# Altium footprint library ICSP_JTAG.PcbLib: 21 footprints (part 1 of 2)
Each footprint in its own frame and in the unit in brackets; x right, y up, seen from the top. Pads: shape width x height; smd on the part's side, far side on the other; paste and mask are expansions set on the pad; w line width, h text height; cw(c..) or ccw(c..) is an arc to the next point about the centre after c.
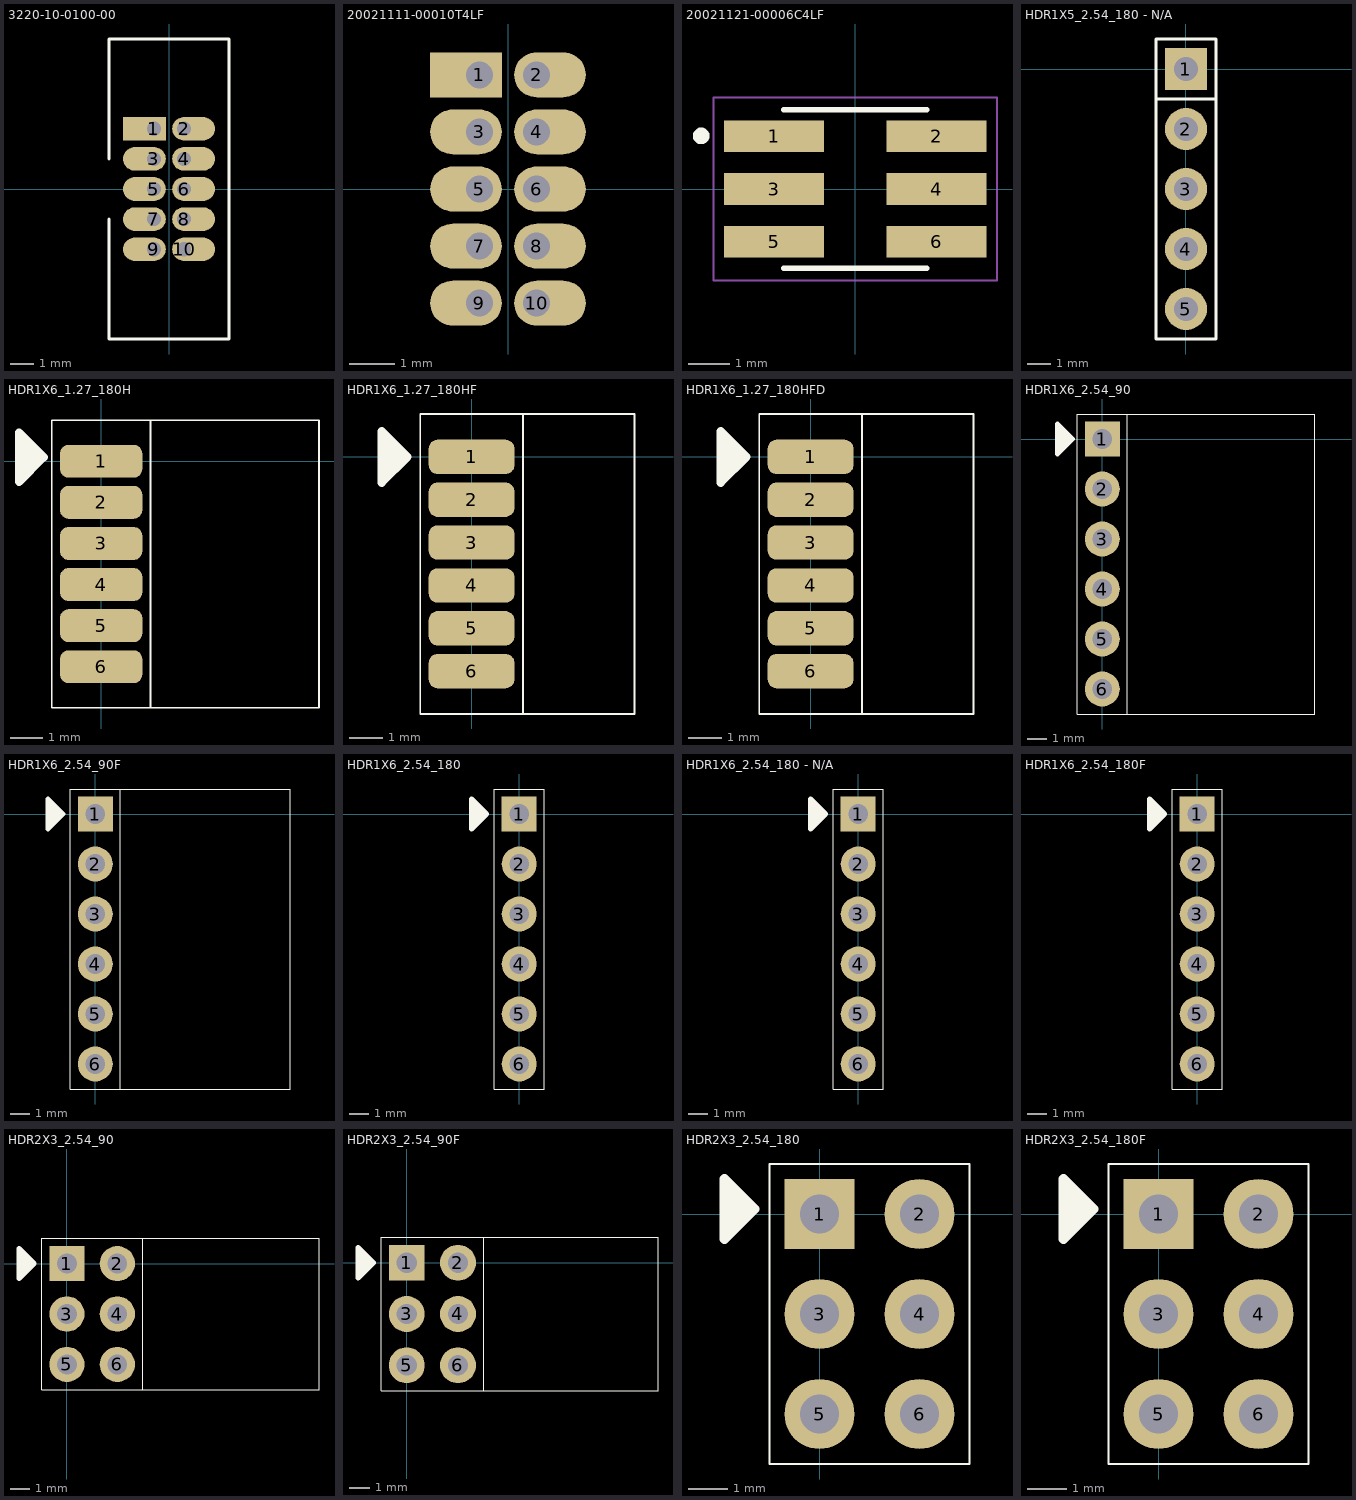
[diagram p0: the footprints below, top view; thin cyan lines are the x and y axes]

## 3220-10-0100-00 [mm] "10 Pos, Shrouded, 0.050\" (1.27 mm), PTH"
pads (10):
  rect 1.8x1 hole 0.6 copper offset -0.4,0: 1(-0.635,2.54)
  oval 1.8x1 hole 0.6 copper offset 0.4,0: 2(0.635,2.54) 4(0.635,1.27) 6(0.635,0) 8(0.635,-1.27) 10(0.635,-2.54)
  oval 1.8x1 hole 0.6 copper offset -0.4,0: 3(-0.635,1.27) 5(-0.635,0) 7(-0.635,-1.27) 9(-0.635,-2.54)
Top Overlay:
  lines w0.127: -2.54,-1.27 -2.54,-6.325 2.54,-6.325 2.54,6.325 -2.54,6.325 -2.54,1.27
3D body "3220-10-0100-00.step": height 5.4, standoff -2.1, extent -2.591,-6.325 2.539,6.325

## 20021111-00010T4LF [mm] "10 Pos, Shrouded, 0.050\" (1.27 mm), PTH"
pads (10):
  rect 1.6x1 hole 0.6 copper offset -0.3,0: 1(-0.635,2.54)
  oval 1.6x1 hole 0.6 copper offset 0.3,0: 2(0.635,2.54) 4(0.635,1.27) 6(0.635,0) 8(0.635,-1.27) 10(0.635,-2.54)
  oval 1.6x1 hole 0.6 copper offset -0.3,0: 3(-0.635,1.27) 5(-0.635,0) 7(-0.635,-1.27) 9(-0.635,-2.54)
3D body "M50-3500542.STEP": height 4.01, standoff -2.29, extent -1.7,-3.175 1.7,3.175

## 20021121-00006C4LF [mm] "CONN HEADER 2X3 SMD"
pads (6):
  rect 2.4x0.76 smd: 1(-1.95,1.27) 2(1.95,1.27) 3(-1.95,0) 4(1.95,0) 5(-1.95,-1.27) 6(1.95,-1.27)
Top Overlay:
  circle w0.2: c-3.7,1.275 r0.1
  lines w0.127: -1.715,-1.905 1.715,-1.905 ; -1.715,1.905 1.715,1.905
Mechanical 15:
  lines w0.05: -3.4,-2.2 3.4,-2.2 3.4,2.2 -3.4,2.2 -3.4,-2.2
3D body "20021121-00006XXLFc.stp": height 4.5, standoff 0, extent -2.75,-1.915 2.75,1.895

## HDR1X5_2.54_180 - N/A [mil]
height 169.29
pads (5):
  rect 70x70 hole 39.37: 1(0,0)
  round 70 hole 39.37: 2(0,-100) 3(0,-200) 4(0,-300) 5(0,-400)
Top Overlay:
  lines w5: -50,-50 50,-50 ; -50,-450 -50,50 ; -50,-450 50,-450 ; -50,-450 50,-450 ; -50,-450 -50,50 ; -50,50 50,50 ; -50,50 50,50 ; 50,-450 50,50 ; 50,-450 50,50

## HDR1X6_1.27_180H [mil]
height 169.29
pads (6):
  rrect50% 100x40 smd: 1(0,0) 2(0,-50) 3(0,-100) 4(0,-150) 5(0,-200) 6(0,-250)
Top Overlay:
  lines w2: -60,-300 -60,50 ; -60,-300 60,-300 60,50 -60,50 ; -60,-300 265,-300 265,50 -60,50 ; -60,-300 -60,50
  lines w10: -95,-20 -100,-20 ; -95,15 -85,15 -90,20 -95,20 -95,-10 -80,5 -85,10 -85,0 -90,5 ; -100,-20 -100,-25 -70,5 -100,35 -100,-20
3D body "pin_header_a-sl127-eg-g06d.stp": height 49.21, standoff -49.21, extent -47.36,-274.99 265.24,25.01

## HDR1X6_1.27_180HF [mil]
height 169.29
pads (6):
  rrect50% 100x40 smd: 1(0,0) 2(0,-50) 3(0,-100) 4(0,-150) 5(0,-200) 6(0,-250)
Top Overlay:
  lines w2: -60,-300 -60,50 ; -60,-300 60,-300 60,50 -60,50 ; -60,-300 190,-300 190,50 -60,50 ; -60,-300 -60,50
  lines w10: -100,-25 -105,-25 ; -100,10 -90,10 -95,15 -100,15 -100,-15 -85,0 -90,5 -90,-5 -95,0 ; -105,-25 -105,-30 -75,0 -105,30 -105,-25
3D body "female_header_a-bl127-eg-g06d.stp": height 35.43, standoff -35.43, extent -38.35,-282.88 190,32.88

## HDR1X6_1.27_180HFD [mil]
height 169.29
pads (6):
  rrect50% 100x40 smd: 1(0,0) 2(0,-50) 3(0,-100) 4(0,-150) 5(0,-200) 6(0,-250)
Top Overlay:
  lines w2: -60,-300 -60,50 ; -60,-300 60,-300 60,50 -60,50 ; -60,-300 190,-300 190,50 -60,50 ; -60,-300 -60,50
  lines w10: -100,-25 -105,-25 ; -100,10 -90,10 -95,15 -100,15 -100,-15 -85,0 -90,5 -90,-5 -95,0 ; -105,-25 -105,30 -75,0 -105,-30 -105,-25
3D body "female_header_a-bl127-eg-g06d.stp": height 71.43, standoff 0.57, extent -38.35,-282.88 190,32.88

## HDR1X6_2.54_90 [mil]
height 169.29
pads (6):
  rect 70x70 hole 39.37: 1(0,0)
  round 70 hole 39.37: 2(0,-100) 3(0,-200) 4(0,-300) 5(0,-400) 6(0,-500)
Top Overlay:
  lines w2: -50,-550 -50,50 ; -50,-550 425,-550 425,50 -50,50 ; -50,-550 -50,50 ; -50,-550 50,-550 50,50 -50,50
  lines w10: -85,-25 -90,-25 ; -85,10 -75,10 -80,15 -85,15 -85,-15 -70,0 -75,5 -75,-5 -80,0 ; -90,-25 -90,30 -60,0 -90,-30 -90,-25
3D body "pin_header_aw140-ea-g06g.stp": height 99.21, standoff -93.7, extent -14.96,-546.06 423.62,46.07

## HDR1X6_2.54_90F [mil]
height 169.29
pads (6):
  rect 70x70 hole 39.37: 1(0,0)
  round 70 hole 39.37: 2(0,-100) 3(0,-200) 4(0,-300) 5(0,-400) 6(0,-500)
Top Overlay:
  lines w2: -50,-550 -50,50 ; -50,-550 390,-550 390,50 -50,50 ; -50,-550 50,-550 50,50 -50,50 ; -50,-550 -50,50
  lines w10: -90,-25 -95,-25 ; -90,10 -80,10 -85,15 -90,15 -90,-15 -75,0 -80,5 -80,-5 -85,0 ; -95,-25 -95,-30 -65,0 -95,30 -95,-25
3D body "female_header_a-bl254-ea-g06d.stp": height 99.21, standoff -125.2, extent -10,-554.92 386.06,54.92

## HDR1X6_2.54_180 [mil]
height 169.29
pads (6):
  rect 70x70 hole 39.37: 1(0,0)
  round 70 hole 39.37: 2(0,-100) 3(0,-200) 4(0,-300) 5(0,-400) 6(0,-500)
Top Overlay:
  lines w2: -50,-550 50,-550 ; -50,-550 -50,50 ; -50,-550 50,-550 ; -50,-550 -50,50 ; -50,50 50,50 ; -50,50 50,50 ; 50,-550 50,50 ; 50,-550 50,50
  lines w10: -90,-25 -95,-25 ; -90,10 -80,10 -85,15 -90,15 -90,-15 -75,0 -80,5 -80,-5 -85,0 ; -95,-25 -95,30 -65,0 -95,-30 -95,-25
3D body "pin_header_aw140-eg-g06d.stp": height 322.83, standoff -118.11, extent -49.18,-550 49.18,50

## HDR1X6_2.54_180 - N/A [mil]
height 169.29
pads (6):
  rect 70x70 hole 39.37: 1(0,0)
  round 70 hole 39.37: 2(0,-100) 3(0,-200) 4(0,-300) 5(0,-400) 6(0,-500)
Top Overlay:
  lines w2: -50,-550 -50,50 ; -50,-550 50,-550 ; -50,-550 50,-550 ; -50,-550 -50,50 ; -50,50 50,50 ; -50,50 50,50 ; 50,-550 50,50 ; 50,-550 50,50
  lines w10: -90,-25 -95,-25 ; -90,10 -80,10 -85,15 -90,15 -90,-15 -75,0 -80,5 -80,-5 -85,0 ; -95,-25 -95,-30 -65,0 -95,30 -95,-25

## HDR1X6_2.54_180F [mil]
height 169.29
pads (6):
  rect 70x70 hole 39.37: 1(0,0)
  round 70 hole 39.37: 2(0,-100) 3(0,-200) 4(0,-300) 5(0,-400) 6(0,-500)
Top Overlay:
  lines w2: -50,-550 -50,50 ; -50,-550 50,-550 ; -50,-550 50,-550 ; -50,-550 -50,50 ; -50,50 50,50 ; -50,50 50,50 ; 50,-550 50,50 ; 50,-550 50,50
  lines w10: -90,-25 -95,-25 ; -90,10 -80,10 -85,15 -90,15 -90,-15 -75,0 -80,5 -80,-5 -85,0 ; -95,-25 -95,30 -65,0 -95,-30 -95,-25
3D body "female_header_a-bl254-eg-g06d.stp": height 334.65, standoff -125.98, extent -49.21,-554.84 49.21,55

## HDR2X3_2.54_90 [mil]
height 169.29
pads (6):
  rect 70x70 hole 39.37: 1(0,0)
  round 70 hole 39.37: 2(100,0) 3(0,-100) 4(100,-100) 5(0,-200) 6(100,-200)
Top Overlay:
  lines w2: -50,-250 -50,50 ; -50,-250 150,-250 150,50 -50,50 ; -50,-250 500,-250 500,50 -50,50 ; -50,-250 -50,50
  lines w10: -90,-25 -95,-25 ; -90,10 -80,10 -85,15 -90,15 -90,-15 -75,0 -80,5 -80,-5 -85,0 ; -95,-25 -95,-30 -65,0 -95,30 -95,-25
3D body "pin_header_awl254-da-g06d.stp": height 198.43, standoff -116.54, extent -10,-250 497.09,50

## HDR2X3_2.54_90F [mil]
height 169.29
pads (6):
  rect 70x70 hole 39.37: 1(0,0)
  round 70 hole 39.37: 2(100,0) 3(0,-100) 4(100,-100) 5(0,-200) 6(100,-200)
Top Overlay:
  lines w2: -50,-250 490,-250 490,50 -50,50 ; -50,-250 -50,50 ; -50,-250 150,-250 150,50 -50,50 ; -50,-250 -50,50
  lines w10: -90,-25 -95,-25 ; -90,10 -80,10 -85,15 -90,15 -90,-15 -75,0 -80,5 -80,-5 -85,0 ; -95,-25 -95,30 -65,0 -95,-30 -95,-25
3D body "female_header_a-bl254-da-g06d.stp": height 198.43, standoff -124.41, extent -10,-254.92 486.06,54.92

## HDR2X3_2.54_180 [mil]
height 169.29
pads (6):
  rect 70x70 hole 39.37: 1(0,0)
  round 70 hole 39.37: 2(100,0) 3(0,-100) 4(100,-100) 5(0,-200) 6(100,-200)
Top Overlay:
  lines w2: -50,-250 -50,50 ; -50,-250 150,-250 ; -50,-250 -50,50 ; -50,-250 150,-250 ; -50,50 150,50 ; -50,50 150,50 ; 150,-250 150,50 ; 150,-250 150,50
  lines w10: -90,-20 -95,-20 ; -90,15 -80,15 -85,20 -90,20 -90,-10 -75,5 -80,10 -80,0 -85,5 ; -95,-20 -95,35 -65,5 -95,-25 -95,-20
3D body "pin_header_awl254-dg-g06d.stp": height 334.65, standoff -118.11, extent -50,-249.99 150,50

## HDR2X3_2.54_180F [mil]
height 169.29
pads (6):
  rect 70x70 hole 39.37: 1(0,0)
  round 70 hole 39.37: 2(100,0) 3(0,-100) 4(100,-100) 5(0,-200) 6(100,-200)
Top Overlay:
  lines w2: -50,-250 -50,50 ; -50,-250 150,-250 ; -50,-250 -50,50 ; -50,-250 150,-250 ; -50,50 150,50 ; -50,50 150,50 ; 150,-250 150,50 ; 150,-250 150,50
  lines w10: -90,-20 -95,-20 ; -90,15 -80,15 -85,20 -90,20 -90,-10 -75,5 -80,10 -80,0 -85,5 ; -95,-20 -95,-25 -65,5 -95,35 -95,-20
3D body "female_header_a-bl254-dg-g06d.stp": height 334.65, standoff -125.98, extent -48.42,-254.91 148.43,54.92